# Altium schematic symbol library RESISTORS_MKlib.SchLib: 6 symbols
Pins are listed as number, name and electrical type; pins without a type are passive.

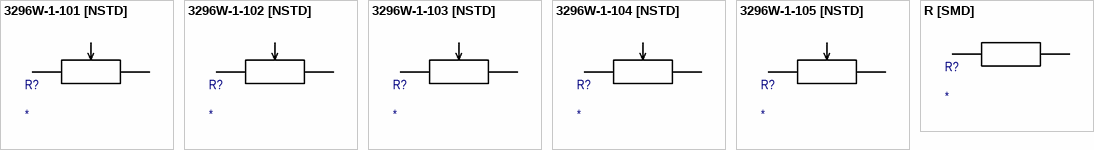
[diagram p0: symbols 3296W-1-101 [NSTD] to R [SMD]]

## 3296W-1-101 [NSTD]
designator R?
100Ohm variable resistor
footprint 3296W [NSTD]
pins: 1, 2, 3

## 3296W-1-102 [NSTD]
designator R?
1kOhm variable resistor
footprint 3296W [NSTD]
pins: 1, 2, 3

## 3296W-1-103 [NSTD]
designator R?
10kOhm variable resistor
footprint 3296W [NSTD]
pins: 1, 2, 3

## 3296W-1-104 [NSTD]
designator R?
100kOhm variable resistor
footprint 3296W [NSTD]
pins: 1, 2, 3

## 3296W-1-105 [NSTD]
designator R?
1MOhm variable resistor
footprint 3296W [NSTD]
pins: 1, 2, 3

## R [SMD]
designator R?
SMD resistor
footprint R [0201]
footprint R [0402]
footprint R [0603]
footprint R [0805]
footprint R [1206]
footprint R [1812]
footprint R [2010]
footprint R [2512]
pins: 1, 2